# Altium schematic symbol library DAPLink.SchLib: 6 symbols
Pins are listed as number, name and electrical type; pins without a type are passive.

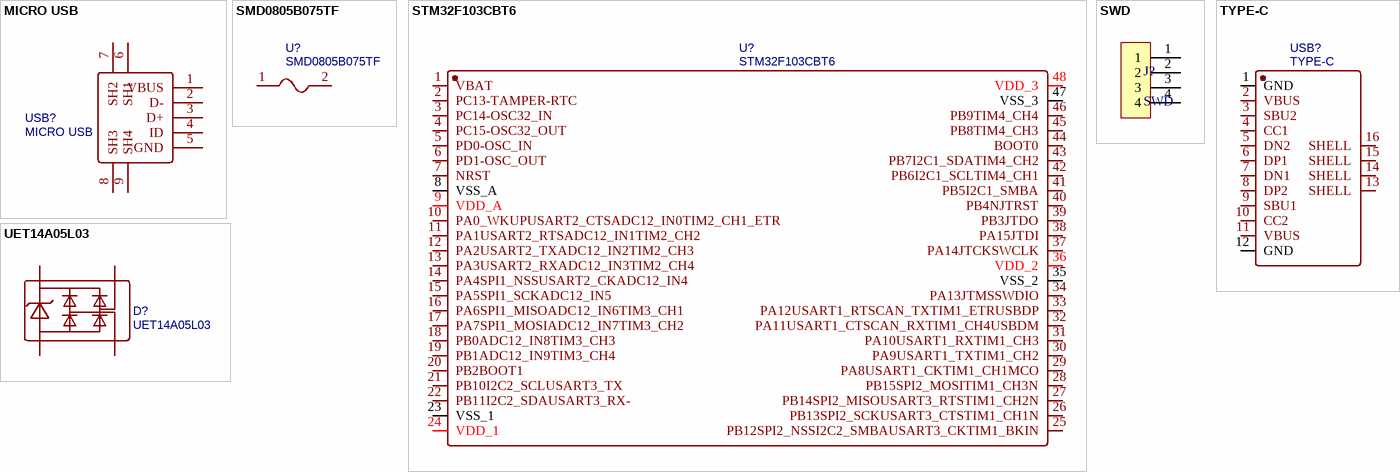
[diagram p0: symbols MICRO USB to UET14A05L03]

## MICRO USB
designator USB?
BOM_Manufacturer: SHOU HAN; BOM_Manufacturer Part: MicroQTJ; Contributor: LCSC; BOM_Supplier: LCSC; BOM_Supplier Part: C404968; BOM_JLCPCB Part Class: Extended Part; spicePre: U; spiceSymbolName: MICROQTJ
footprint MICRO-USB
pins: 1 VBUS, 2 D-, 3 D+, 4 ID, 5 GND, 6 SH1, 7 SH2, 8 SH3, 9 SH4

## SMD0805B075TF
designator U?
BOM_Manufacturer: Brightking Elec (TAIWAN); Contributor: LCSC; BOM_Supplier: LCSC; BOM_Supplier Part: C269105; BOM_Manufacturer Part: SMD0805B075TF; BOM_JLCPCB Part Class: Extended Part; spicePre: U; spiceSymbolName: SMD0805B075TF
footprint F0805
pins: 1, 2

## STM32F103CBT6
designator U?
BOM_Manufacturer: STMicroelectronics; timeStamp: 1458840421; BOM_Supplier: LCSC; BOM_Manufacturer Part: STM32F103CBT6; BOM_Supplier Part: C8304; BOM_JLCPCB Part Class: Extended Part; spicePre: U; spiceSymbolName: STM32F103CBT6
footprint LQFP-48
pins: 1 VBAT, 2 PC13-TAMPER-RTC, 3 PC14-OSC32_IN, 4 PC15-OSC32_OUT, 5 PD0-OSC_IN, 6 PD1-OSC_OUT, 7 NRST, 8 VSS_A, 9 VDD_A, 10 PA0_WKUPUSART2_CTSADC12_IN0TIM2_CH1_ETR, 11 PA1USART2_RTSADC12_IN1TIM2_CH2, 12 PA2USART2_TXADC12_IN2TIM2_CH3, 13 PA3USART2_RXADC12_IN3TIM2_CH4, 14 PA4SPI1_NSSUSART2_CKADC12_IN4, 15 PA5SPI1_SCKADC12_IN5, 16 PA6SPI1_MISOADC12_IN6TIM3_CH1, 17 PA7SPI1_MOSIADC12_IN7TIM3_CH2, 18 PB0ADC12_IN8TIM3_CH3, 19 PB1ADC12_IN9TIM3_CH4, 20 PB2BOOT1, 21 PB10I2C2_SCLUSART3_TX, 22 PB11I2C2_SDAUSART3_RX-, 23 VSS_1, 24 VDD_1, 25 PB12SPI2_NSSI2C2_SMBAUSART3_CKTIM1_BKIN, 26 PB13SPI2_SCKUSART3_CTSTIM1_CH1N, 27 PB14SPI2_MISOUSART3_RTSTIM1_CH2N, 28 PB15SPI2_MOSITIM1_CH3N, 29 PA8USART1_CKTIM1_CH1MCO, 30 PA9USART1_TXTIM1_CH2, 31 PA10USART1_RXTIM1_CH3, 32 PA11USART1_CTSCAN_RXTIM1_CH4USBDM, 33 PA12USART1_RTSCAN_TXTIM1_ETRUSBDP, 34 PA13JTMSSWDIO, 35 VSS_2, 36 VDD_2, 37 PA14JTCKSWCLK, 38 PA15JTDI, 39 PB3JTDO, 40 PB4NJTRST, 41 PB5I2C1_SMBA, 42 PB6I2C1_SCLTIM4_CH1, 43 PB7I2C1_SDATIM4_CH2, 44 BOOT0, 45 PB8TIM4_CH3, 46 PB9TIM4_CH4, 47 VSS_3, 48 VDD_3

## SWD
designator J?
footprint SWD
pins: 1, 2, 3, 4

## TYPE-C
designator USB?
BOM_Manufacturer: 韩国韩荣; BOM_Manufacturer Part: TYPE-C-31-M-22; Contributor: LCSC; BOM_Supplier: LCSC; BOM_Supplier Part: C530612; spicePre: U; spiceSymbolName: TYPE-C-31-M-22
footprint TYPE-C
pins: 1 GND, 2 VBUS, 3 SBU2, 4 CC1, 5 DN2, 6 DP1, 7 DN1, 8 DP2, 9 SBU1, 10 CC2, 11 VBUS, 12 GND, 13 SHELL, 14 SHELL, 15 SHELL, 16 SHELL

## UET14A05L03
designator D?
BOM_Manufacturer: Brightking; BOM_Supplier: LCSC; BOM_Manufacturer Part: UET14A05L03; BOM_Supplier Part: C78442; BOM_JLCPCB Part Class: Extended Part; spicePre: D; spiceSymbolName: UET14A05L03
footprint SOT-143
pins: 1 A, 2, 3, 4 K